# Altium schematic symbol library SCH - DIODES - TVS_SMBJ14A-13-F.SCHLIB: 1 symbol
Pins are listed as number, name and electrical type; pins without a type are passive.

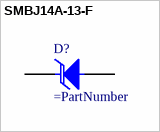
[diagram p0: symbol SMBJ14A-13-F]

## SMBJ14A-13-F
designator D?
Diode, TVS, Uni, 14 V, 600 W, SMB
footprint SMB
pins: 1 K, 2 A